# Altium footprint library con-phoenix-350.PCBLIB: 23 footprints (part 2 of 2)
Each footprint in its own frame and in the unit in brackets; x right, y up, seen from the top. Pads: shape width x height; smd on the part's side, far side on the other; paste and mask are expansions set on the pad; w line width, h text height; cw(c..) or ccw(c..) is an arc to the next point about the centre after c.
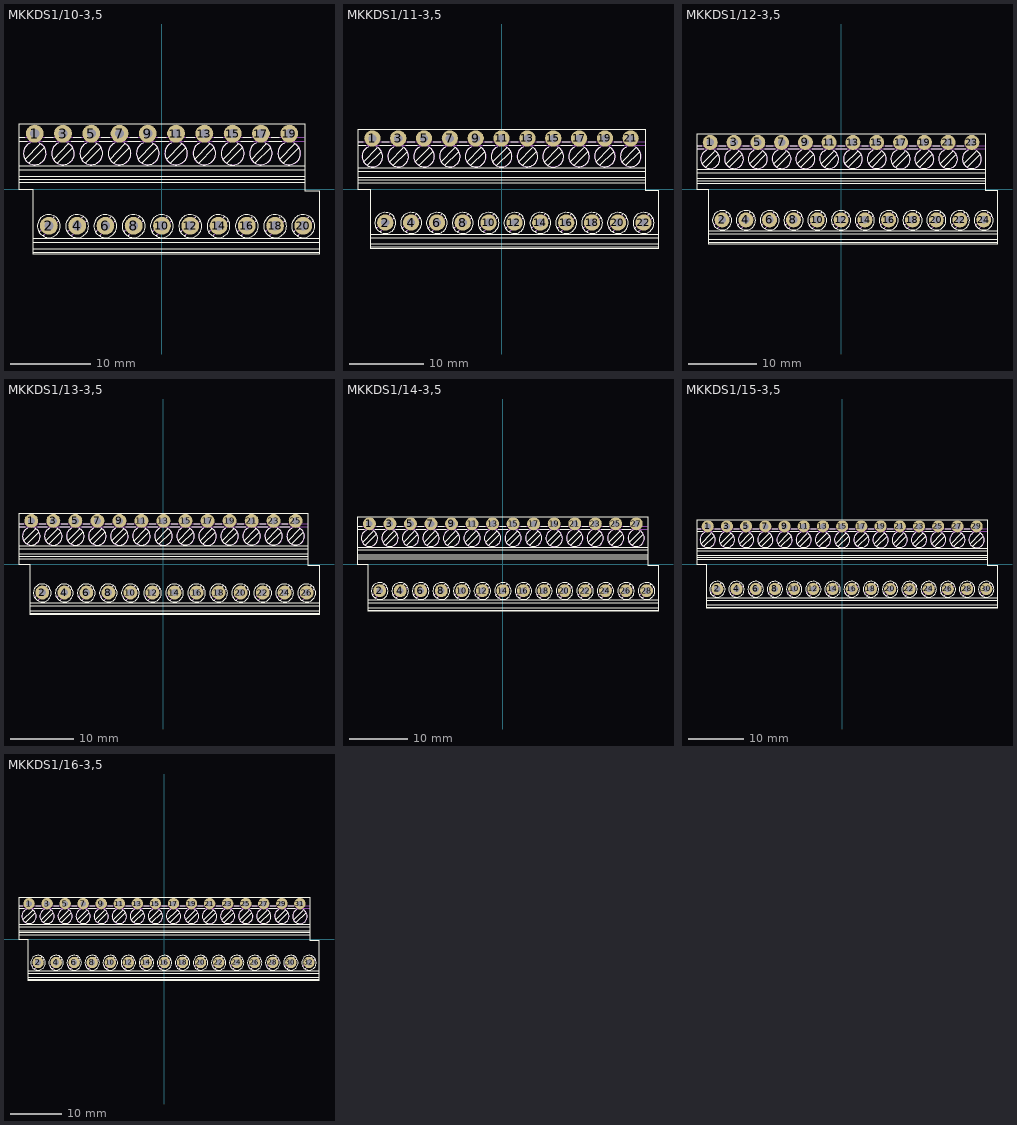
[diagram p1: the footprints below, top view; thin cyan lines are the x and y axes]

## MKKDS1/10-3,5 [mil]
pads (20):
  round 87 hole 44: 1(-620.08,270) 2(-551.18,-179.13) 3(-482.28,270) 4(-413.39,-179.13) 5(-344.49,270) 6(-275.59,-179.13) 7(-206.69,270) 8(-137.8,-179.13) 9(-68.9,270) 10(0,-179.13) 11(69,270) 12(138,-179.13) 13(207,270) 14(276,-179.13) 15(345,270) 16(414,-179.13) 17(483,270) 18(552,-179.13) 19(621,270) 20(689,-179.13)
Top Overlay:
  circle w4: c-551.18,-181.1 r56
  circle w4: c-413.39,-181.1 r56
  circle w4: c-275.59,-181.1 r56
  circle w4: c-137.8,-181.1 r56
  circle w4: c0,-181.1 r56
  circle w4: c138,-181.1 r56
  circle w4: c276,-181.1 r56
  circle w4: c414,-181.1 r56
  circle w4: c552,-181.1 r56
  circle w4: c689,-181.1 r56
  lines w4: -695.87,234 -656.5,234 ; -695.87,252 -668.31,252 ; -694.88,34 696,34 ; -694.88,46 696,46 ; -694.88,63 696,63 ; -694.88,95 696,95 ; -694.88,114 696,114 ; -666.34,146 -593.5,220 ; -646.65,127 -572.83,200 ; -642.72,224 ccw(c-620.15,173.74) -595.47,223 ; -625.98,-309.06 765,-309.06 ; -625.98,-292.32 765,-292.32 ; -625.98,-259.84 765,-259.84 ; -625.98,-241.14 765,-241.14 ; -597.44,-208.66 -593.5,-204.72 ; -580.71,234 -518.7,234 ; -577.76,-227.36 -573.82,-223.43 ; -570.87,252 -530.51,252 ; -528.54,146 -455.71,220 ; -527.56,-137.8 -524.61,-134.84 ; -508.86,127 -435.04,200 ; -506.89,-157.48 -503.94,-154.53 ; -504.92,224 ccw(c-482.35,173.74) -457.68,223 ; -459.65,-208.66 -455.71,-204.72 ; -442.91,234 -380.91,234 ; -439.96,-227.36 -436.02,-223.43 ; -433.07,252 -392.72,252 ; -390.75,146 -317.91,220 ; -389.76,-137.8 -386.81,-134.84 ; -371.06,127 -297.24,200 ; -369.09,-157.48 -366.14,-154.53 ; -367.13,224 ccw(c-344.56,173.74) -319.88,223 ; -321.85,-208.66 -317.91,-204.72 ; -305.12,234 -243.11,234 ; -302.17,-227.36 -298.23,-223.43 ; -295.28,252 -254.92,252 ; -252.95,146 -180.12,220 ; -251.97,-137.8 -249.02,-134.84 ; -233.27,127 -159.45,200 ; -231.3,-157.48 -228.35,-154.53 ; -229.33,224 ccw(c-206.76,173.74) -182.09,223 ; -184.06,-208.66 -180.12,-204.72 ; -167.32,234 -105.31,234 ; -164.37,-227.36 -160.43,-223.43 ; -157.48,252 -117.13,252 ; -115.16,146 -42.32,220 ; -114.17,-137.8 -111.22,-134.84 ; -95.47,127 -21.65,200 ; -93.5,-157.48 -90.55,-154.53 ; -91.54,224 ccw(c-68.97,173.74) -44.29,223 ; -46.26,-208.66 -42.32,-204.72 ; -29.53,234 33,234 ; -26.57,-227.36 -22.64,-223.43 ; -19.68,252 21,252 ; 23,146 96,220 ; 24,-137.8 27,-134.84 ; 43,127 117,200 ; 45,-157.48 48,-154.53 ; 47,224 ccw(c69.45,173.99) 94,223 ; 92,-208.66 96,-204.72 ; 109,234 171,234 ; 112,-227.36 116,-223.43 ; 119,252 159,252 ; 161,146 234,220 ; 162,-137.8 165,-134.84 ; 181,127 254,200 ; 183,-157.48 186,-154.53 ; 185,224 ccw(c207.45,173.99) 232,223 ; 230,-208.66 234,-204.72 ; 247,234 309,234 ; 250,-227.36 253,-223.43 ; 256,252 297,252 ; 299,146 372,220 ; 300,-137.8 303,-134.84 ; 318,127 392,200 ; 320,-157.48 323,-154.53 ; 322,224 ccw(c344.95,172.94) 370,223 ; 368,-208.66 372,-204.72 ; 384,234 446,234 ; 387,-227.36 391,-223.43 ; 394,252 435,252 ; 437,146 509,220 ; 438,-137.8 440,-134.84 ; 456,127 530,200 ; 458,-157.48 461,-154.53 ; 460,224 ccw(c482.45,173.99) 507,223 ; 505,-208.66 509,-204.72 ; 522,234 584,234 ; 525,-227.36 529,-223.43 ; 532,252 572,252 ; 574,146 647,220 ; 575,-137.8 578,-134.84 ; 594,127 668,200 ; 596,-157.48 599,-154.53 ; 598,224 ccw(c620.45,173.99) 645,223 ; 643,-208.66 647,-204.72 ; 663,-227.36 667,-223.43 ; 713,-137.8 716,-134.84 ; 734,-157.48 737,-154.53 ; -696.85,-3.94 -696.85,319 697,319 697,-7.87 766,-7.87 766,-318.9 -627.95,-318.9 -627.95,-3.94 -696.85,-3.94
Mechanical 16:
  circle w4: c-620.08,174 r56
  circle w4: c-482.28,174 r56
  circle w4: c-344.49,174 r56
  circle w4: c-206.69,174 r56
  circle w4: c-68.9,174 r56
  circle w4: c69,174 r56
  circle w4: c207,174 r56
  circle w4: c345,174 r56
  circle w4: c483,174 r56
  circle w4: c621,174 r56
  lines w4: -695.87,234 695,234 ; -695.87,252 695,252 ; -597.44,-208.66 -524.61,-134.84 ; -577.76,-227.36 -503.94,-154.53 ; -459.65,-208.66 -386.81,-134.84 ; -439.96,-227.36 -366.14,-154.53 ; -321.85,-208.66 -249.02,-134.84 ; -302.17,-227.36 -228.35,-154.53 ; -184.06,-208.66 -111.22,-134.84 ; -164.37,-227.36 -90.55,-154.53 ; -46.26,-208.66 27,-134.84 ; -26.57,-227.36 48,-154.53 ; 92,-208.66 165,-134.84 ; 112,-227.36 186,-154.53 ; 230,-208.66 303,-134.84 ; 250,-227.36 323,-154.53 ; 368,-208.66 440,-134.84 ; 387,-227.36 461,-154.53 ; 505,-208.66 578,-134.84 ; 525,-227.36 599,-154.53 ; 643,-208.66 716,-134.84 ; 663,-227.36 737,-154.53

## MKKDS1/11-3,5 [mil]
pads (22):
  round 87 hole 44: 1(-688.98,270) 2(-620.08,-179.13) 3(-551.18,270) 4(-482.28,-179.13) 5(-413.39,270) 6(-344.49,-179.13) 7(-275.59,270) 8(-206.69,-179.13) 9(-137.8,270) 10(-68.9,-179.13) 11(0,270) 12(69,-179.13) 13(138,270) 14(207,-179.13) 15(276,270) 16(345,-179.13) 17(414,270) 18(483,-179.13) 19(552,270) 20(621,-179.13) 21(689,270) 22(758,-179.13)
Top Overlay:
  circle w4: c-620.08,-181.1 r56
  circle w4: c-482.28,-181.1 r56
  circle w4: c-344.49,-181.1 r56
  circle w4: c-206.69,-181.1 r56
  circle w4: c-68.9,-181.1 r56
  circle w4: c69,-181.1 r56
  circle w4: c207,-181.1 r56
  circle w4: c345,-181.1 r56
  circle w4: c483,-181.1 r56
  circle w4: c621,-181.1 r56
  circle w4: c758,-181.1 r56
  lines w4: -764.76,234 -725.39,234 ; -764.76,252 -737.2,252 ; -763.78,34 765,34 ; -763.78,46 765,46 ; -763.78,63 765,63 ; -763.78,95 765,95 ; -763.78,114 765,114 ; -735.24,146 -662.4,220 ; -715.55,127 -641.73,200 ; -711.61,224 ccw(c-689.05,173.74) -664.37,223 ; -694.88,-309.06 834,-309.06 ; -694.88,-292.32 834,-292.32 ; -694.88,-259.84 834,-259.84 ; -694.88,-241.14 834,-241.14 ; -666.34,-208.66 -662.4,-204.72 ; -649.61,234 -587.6,234 ; -646.65,-227.36 -642.72,-223.43 ; -639.76,252 -599.41,252 ; -597.44,146 -524.61,220 ; -596.46,-137.8 -593.5,-134.84 ; -577.76,127 -503.94,200 ; -575.79,-157.48 -572.83,-154.53 ; -573.82,224 ccw(c-551.25,173.74) -526.57,223 ; -528.54,-208.66 -524.61,-204.72 ; -511.81,234 -449.8,234 ; -508.86,-227.36 -504.92,-223.43 ; -501.97,252 -461.61,252 ; -459.65,146 -386.81,220 ; -458.66,-137.8 -455.71,-134.84 ; -439.96,127 -366.14,200 ; -437.99,-157.48 -435.04,-154.53 ; -436.02,224 ccw(c-413.45,173.74) -388.78,223 ; -390.75,-208.66 -386.81,-204.72 ; -374.02,234 -312.01,234 ; -371.06,-227.36 -367.13,-223.43 ; -364.17,252 -323.82,252 ; -321.85,146 -249.02,220 ; -320.87,-137.8 -317.91,-134.84 ; -302.17,127 -228.35,200 ; -300.2,-157.48 -297.24,-154.53 ; -298.23,224 ccw(c-275.66,173.74) -250.98,223 ; -252.95,-208.66 -249.02,-204.72 ; -236.22,234 -174.21,234 ; -233.27,-227.36 -229.33,-223.43 ; -226.38,252 -186.02,252 ; -184.06,146 -111.22,220 ; -183.07,-137.8 -180.12,-134.84 ; -164.37,127 -90.55,200 ; -162.4,-157.48 -159.45,-154.53 ; -160.43,224 ccw(c-137.86,173.74) -113.19,223 ; -115.16,-208.66 -111.22,-204.72 ; -98.43,234 -36.42,234 ; -95.47,-227.36 -91.54,-223.43 ; -88.58,252 -48.23,252 ; -46.26,146 27,220 ; -45.28,-137.8 -42.32,-134.84 ; -26.57,127 48,200 ; -24.61,-157.48 -21.65,-154.53 ; -22.64,224 ccw(c0.13,173.32) 25,223 ; 23,-208.66 27,-204.72 ; 40,234 102,234 ; 43,-227.36 47,-223.43 ; 50,252 90,252 ; 92,146 165,220 ; 93,-137.8 96,-134.84 ; 112,127 186,200 ; 114,-157.48 117,-154.53 ; 116,224 ccw(c138.45,173.99) 163,223 ; 161,-208.66 165,-204.72 ; 178,234 240,234 ; 181,-227.36 185,-223.43 ; 188,252 228,252 ; 230,146 303,220 ; 231,-137.8 234,-134.84 ; 250,127 323,200 ; 251,-157.48 254,-154.53 ; 253,224 ccw(c275.95,172.94) 301,223 ; 299,-208.66 303,-204.72 ; 315,234 377,234 ; 318,-227.36 322,-223.43 ; 325,252 366,252 ; 368,146 440,220 ; 369,-137.8 372,-134.84 ; 387,127 461,200 ; 389,-157.48 392,-154.53 ; 391,224 ccw(c413.45,173.99) 438,223 ; 437,-208.66 440,-204.72 ; 453,234 515,234 ; 456,-227.36 460,-223.43 ; 463,252 503,252 ; 505,146 578,220 ; 506,-137.8 509,-134.84 ; 525,127 599,200 ; 527,-157.48 530,-154.53 ; 529,224 ccw(c551.45,173.99) 576,223 ; 574,-208.66 578,-204.72 ; 591,234 653,234 ; 594,-227.36 598,-223.43 ; 601,252 641,252 ; 643,146 716,220 ; 644,-137.8 647,-134.84 ; 663,127 737,200 ; 665,-157.48 668,-154.53 ; 667,224 ccw(c689.45,173.99) 714,223 ; 712,-208.66 716,-204.72 ; 732,-227.36 736,-223.43 ; 782,-137.8 785,-134.84 ; 803,-157.48 806,-154.53 ; -765.75,-3.94 -765.75,319 766,319 766,-7.87 835,-7.87 835,-318.9 -696.85,-318.9 -696.85,-3.94 -765.75,-3.94
Mechanical 16:
  circle w4: c-688.98,174 r56
  circle w4: c-551.18,174 r56
  circle w4: c-413.39,174 r56
  circle w4: c-275.59,174 r56
  circle w4: c-137.8,174 r56
  circle w4: c0,174 r56
  circle w4: c138,174 r56
  circle w4: c276,174 r56
  circle w4: c414,174 r56
  circle w4: c552,174 r56
  circle w4: c689,174 r56
  lines w4: -764.76,234 764,234 ; -764.76,252 764,252 ; -666.34,-208.66 -593.5,-134.84 ; -646.65,-227.36 -572.83,-154.53 ; -528.54,-208.66 -455.71,-134.84 ; -508.86,-227.36 -435.04,-154.53 ; -390.75,-208.66 -317.91,-134.84 ; -371.06,-227.36 -297.24,-154.53 ; -252.95,-208.66 -180.12,-134.84 ; -233.27,-227.36 -159.45,-154.53 ; -115.16,-208.66 -42.32,-134.84 ; -95.47,-227.36 -21.65,-154.53 ; 23,-208.66 96,-134.84 ; 43,-227.36 117,-154.53 ; 161,-208.66 234,-134.84 ; 181,-227.36 254,-154.53 ; 299,-208.66 372,-134.84 ; 318,-227.36 392,-154.53 ; 437,-208.66 509,-134.84 ; 456,-227.36 530,-154.53 ; 574,-208.66 647,-134.84 ; 594,-227.36 668,-154.53 ; 712,-208.66 785,-134.84 ; 732,-227.36 806,-154.53

## MKKDS1/12-3,5 [mil]
pads (24):
  round 87 hole 44: 1(-757.87,270) 2(-688.98,-179.13) 3(-620.08,270) 4(-551.18,-179.13) 5(-482.28,270) 6(-413.39,-179.13) 7(-344.49,270) 8(-275.59,-179.13) 9(-206.69,270) 10(-137.8,-179.13) 11(-68.9,270) 12(0,-179.13) 13(69,270) 14(138,-179.13) 15(207,270) 16(276,-179.13) 17(345,270) 18(414,-179.13) 19(483,270) 20(552,-179.13) 21(621,270) 22(689,-179.13) 23(758,270) 24(827,-179.13)
Top Overlay:
  circle w4: c-688.98,-181.1 r56
  circle w4: c-551.18,-181.1 r56
  circle w4: c-413.39,-181.1 r56
  circle w4: c-275.59,-181.1 r56
  circle w4: c-137.8,-181.1 r56
  circle w4: c0,-181.1 r56
  circle w4: c138,-181.1 r56
  circle w4: c276,-181.1 r56
  circle w4: c414,-181.1 r56
  circle w4: c552,-181.1 r56
  circle w4: c689,-181.1 r56
  circle w4: c827,-181.1 r56
  lines w4: -833.66,234 -794.29,234 ; -833.66,252 -806.1,252 ; -832.68,34 834,34 ; -832.68,46 834,46 ; -832.68,63 834,63 ; -832.68,95 834,95 ; -832.68,114 834,114 ; -804.13,146 -731.3,220 ; -784.45,127 -710.63,200 ; -780.51,224 ccw(c-757.94,173.74) -733.27,223 ; -763.78,-309.06 903,-309.06 ; -763.78,-292.32 903,-292.32 ; -763.78,-259.84 903,-259.84 ; -763.78,-241.14 903,-241.14 ; -735.24,-208.66 -731.3,-204.72 ; -718.5,234 -656.5,234 ; -715.55,-227.36 -711.61,-223.43 ; -708.66,252 -668.31,252 ; -666.34,146 -593.5,220 ; -665.35,-137.8 -662.4,-134.84 ; -646.65,127 -572.83,200 ; -644.68,-157.48 -641.73,-154.53 ; -642.72,224 ccw(c-620.15,173.74) -595.47,223 ; -597.44,-208.66 -593.5,-204.72 ; -580.71,234 -518.7,234 ; -577.76,-227.36 -573.82,-223.43 ; -570.87,252 -530.51,252 ; -528.54,146 -455.71,220 ; -527.56,-137.8 -524.61,-134.84 ; -508.86,127 -435.04,200 ; -506.89,-157.48 -503.94,-154.53 ; -504.92,224 ccw(c-482.35,173.74) -457.68,223 ; -459.65,-208.66 -455.71,-204.72 ; -442.91,234 -380.91,234 ; -439.96,-227.36 -436.02,-223.43 ; -433.07,252 -392.72,252 ; -390.75,146 -317.91,220 ; -389.76,-137.8 -386.81,-134.84 ; -371.06,127 -297.24,200 ; -369.09,-157.48 -366.14,-154.53 ; -367.13,224 ccw(c-344.56,173.74) -319.88,223 ; -321.85,-208.66 -317.91,-204.72 ; -305.12,234 -243.11,234 ; -302.17,-227.36 -298.23,-223.43 ; -295.28,252 -254.92,252 ; -252.95,146 -180.12,220 ; -251.97,-137.8 -249.02,-134.84 ; -233.27,127 -159.45,200 ; -231.3,-157.48 -228.35,-154.53 ; -229.33,224 ccw(c-206.76,173.74) -182.09,223 ; -184.06,-208.66 -180.12,-204.72 ; -167.32,234 -105.31,234 ; -164.37,-227.36 -160.43,-223.43 ; -157.48,252 -117.13,252 ; -115.16,146 -42.32,220 ; -114.17,-137.8 -111.22,-134.84 ; -95.47,127 -21.65,200 ; -93.5,-157.48 -90.55,-154.53 ; -91.54,224 ccw(c-68.97,173.74) -44.29,223 ; -46.26,-208.66 -42.32,-204.72 ; -29.53,234 33,234 ; -26.57,-227.36 -22.64,-223.43 ; -19.68,252 21,252 ; 23,146 96,220 ; 24,-137.8 27,-134.84 ; 43,127 117,200 ; 45,-157.48 48,-154.53 ; 47,224 ccw(c69.45,173.99) 94,223 ; 92,-208.66 96,-204.72 ; 109,234 171,234 ; 112,-227.36 116,-223.43 ; 119,252 159,252 ; 161,146 234,220 ; 162,-137.8 165,-134.84 ; 181,127 254,200 ; 183,-157.48 186,-154.53 ; 185,224 ccw(c207.45,173.99) 232,223 ; 230,-208.66 234,-204.72 ; 247,234 309,234 ; 250,-227.36 253,-223.43 ; 256,252 297,252 ; 299,146 372,220 ; 300,-137.8 303,-134.84 ; 318,127 392,200 ; 320,-157.48 323,-154.53 ; 322,224 ccw(c344.95,172.94) 370,223 ; 368,-208.66 372,-204.72 ; 384,234 446,234 ; 387,-227.36 391,-223.43 ; 394,252 435,252 ; 437,146 509,220 ; 438,-137.8 440,-134.84 ; 456,127 530,200 ; 458,-157.48 461,-154.53 ; 460,224 ccw(c482.45,173.99) 507,223 ; 505,-208.66 509,-204.72 ; 522,234 584,234 ; 525,-227.36 529,-223.43 ; 532,252 572,252 ; 574,146 647,220 ; 575,-137.8 578,-134.84 ; 594,127 668,200 ; 596,-157.48 599,-154.53 ; 598,224 ccw(c620.45,173.99) 645,223 ; 643,-208.66 647,-204.72 ; 660,234 722,234 ; 663,-227.36 667,-223.43 ; 670,252 710,252 ; 712,146 785,220 ; 713,-137.8 716,-134.84 ; 732,127 806,200 ; 734,-157.48 737,-154.53 ; 736,224 ccw(c758.45,173.99) 783,223 ; 781,-208.66 785,-204.72 ; 801,-227.36 805,-223.43 ; 851,-137.8 854,-134.84 ; 872,-157.48 875,-154.53 ; -834.65,-3.94 -834.65,319 835,319 835,-7.87 904,-7.87 904,-318.9 -765.75,-318.9 -765.75,-3.94 -834.65,-3.94
Mechanical 16:
  circle w4: c-757.87,174 r56
  circle w4: c-620.08,174 r56
  circle w4: c-482.28,174 r56
  circle w4: c-344.49,174 r56
  circle w4: c-206.69,174 r56
  circle w4: c-68.9,174 r56
  circle w4: c69,174 r56
  circle w4: c207,174 r56
  circle w4: c345,174 r56
  circle w4: c483,174 r56
  circle w4: c621,174 r56
  circle w4: c758,174 r56
  lines w4: -833.66,234 833,234 ; -833.66,252 833,252 ; -735.24,-208.66 -662.4,-134.84 ; -715.55,-227.36 -641.73,-154.53 ; -597.44,-208.66 -524.61,-134.84 ; -577.76,-227.36 -503.94,-154.53 ; -459.65,-208.66 -386.81,-134.84 ; -439.96,-227.36 -366.14,-154.53 ; -321.85,-208.66 -249.02,-134.84 ; -302.17,-227.36 -228.35,-154.53 ; -184.06,-208.66 -111.22,-134.84 ; -164.37,-227.36 -90.55,-154.53 ; -46.26,-208.66 27,-134.84 ; -26.57,-227.36 48,-154.53 ; 92,-208.66 165,-134.84 ; 112,-227.36 186,-154.53 ; 230,-208.66 303,-134.84 ; 250,-227.36 323,-154.53 ; 368,-208.66 440,-134.84 ; 387,-227.36 461,-154.53 ; 505,-208.66 578,-134.84 ; 525,-227.36 599,-154.53 ; 643,-208.66 716,-134.84 ; 663,-227.36 737,-154.53 ; 781,-208.66 854,-134.84 ; 801,-227.36 875,-154.53

## MKKDS1/13-3,5 [mil]
pads (26):
  round 87 hole 44: 1(-826.77,270) 2(-757.87,-179.13) 3(-688.98,270) 4(-620.08,-179.13) 5(-551.18,270) 6(-482.28,-179.13) 7(-413.39,270) 8(-344.49,-179.13) 9(-275.59,270) 10(-206.69,-179.13) 11(-137.8,270) 12(-68.9,-179.13) 13(0,270) 14(69,-179.13) 15(138,270) 16(207,-179.13) 17(276,270) 18(345,-179.13) 19(414,270) 20(483,-179.13) 21(552,270) 22(621,-179.13) 23(689,270) 24(758,-179.13) 25(827,270) 26(896,-179.13)
Top Overlay:
  circle w4: c-757.87,-181.1 r56
  circle w4: c-620.08,-181.1 r56
  circle w4: c-482.28,-181.1 r56
  circle w4: c-344.49,-181.1 r56
  circle w4: c-206.69,-181.1 r56
  circle w4: c-68.9,-181.1 r56
  circle w4: c69,-181.1 r56
  circle w4: c207,-181.1 r56
  circle w4: c345,-181.1 r56
  circle w4: c483,-181.1 r56
  circle w4: c621,-181.1 r56
  circle w4: c758,-181.1 r56
  circle w4: c896,-181.1 r56
  lines w4: -902.56,234 -863.19,234 ; -902.56,252 -875,252 ; -901.57,34 903,34 ; -901.57,46 903,46 ; -901.57,63 903,63 ; -901.57,95 903,95 ; -901.57,114 903,114 ; -873.03,146 -800.2,220 ; -853.35,127 -779.53,200 ; -849.41,224 ccw(c-826.84,173.74) -802.17,223 ; -832.68,-309.06 972,-309.06 ; -832.68,-292.32 972,-292.32 ; -832.68,-259.84 972,-259.84 ; -832.68,-241.14 972,-241.14 ; -804.13,-208.66 -800.2,-204.72 ; -787.4,234 -725.39,234 ; -784.45,-227.36 -780.51,-223.43 ; -777.56,252 -737.2,252 ; -735.24,146 -662.4,220 ; -734.25,-137.8 -731.3,-134.84 ; -715.55,127 -641.73,200 ; -713.58,-157.48 -710.63,-154.53 ; -711.61,224 ccw(c-689.05,173.74) -664.37,223 ; -666.34,-208.66 -662.4,-204.72 ; -649.61,234 -587.6,234 ; -646.65,-227.36 -642.72,-223.43 ; -639.76,252 -599.41,252 ; -597.44,146 -524.61,220 ; -596.46,-137.8 -593.5,-134.84 ; -577.76,127 -503.94,200 ; -575.79,-157.48 -572.83,-154.53 ; -573.82,224 ccw(c-551.25,173.74) -526.57,223 ; -528.54,-208.66 -524.61,-204.72 ; -511.81,234 -449.8,234 ; -508.86,-227.36 -504.92,-223.43 ; -501.97,252 -461.61,252 ; -459.65,146 -386.81,220 ; -458.66,-137.8 -455.71,-134.84 ; -439.96,127 -366.14,200 ; -437.99,-157.48 -435.04,-154.53 ; -436.02,224 ccw(c-413.45,173.74) -388.78,223 ; -390.75,-208.66 -386.81,-204.72 ; -374.02,234 -312.01,234 ; -371.06,-227.36 -367.13,-223.43 ; -364.17,252 -323.82,252 ; -321.85,146 -249.02,220 ; -320.87,-137.8 -317.91,-134.84 ; -302.17,127 -228.35,200 ; -300.2,-157.48 -297.24,-154.53 ; -298.23,224 ccw(c-275.66,173.74) -250.98,223 ; -252.95,-208.66 -249.02,-204.72 ; -236.22,234 -174.21,234 ; -233.27,-227.36 -229.33,-223.43 ; -226.38,252 -186.02,252 ; -184.06,146 -111.22,220 ; -183.07,-137.8 -180.12,-134.84 ; -164.37,127 -90.55,200 ; -162.4,-157.48 -159.45,-154.53 ; -160.43,224 ccw(c-137.86,173.74) -113.19,223 ; -115.16,-208.66 -111.22,-204.72 ; -98.43,234 -36.42,234 ; -95.47,-227.36 -91.54,-223.43 ; -88.58,252 -48.23,252 ; -46.26,146 27,220 ; -45.28,-137.8 -42.32,-134.84 ; -26.57,127 48,200 ; -24.61,-157.48 -21.65,-154.53 ; -22.64,224 ccw(c0.13,173.32) 25,223 ; 23,-208.66 27,-204.72 ; 40,234 102,234 ; 43,-227.36 47,-223.43 ; 50,252 90,252 ; 92,146 165,220 ; 93,-137.8 96,-134.84 ; 112,127 186,200 ; 114,-157.48 117,-154.53 ; 116,224 ccw(c138.45,173.99) 163,223 ; 161,-208.66 165,-204.72 ; 178,234 240,234 ; 181,-227.36 185,-223.43 ; 188,252 228,252 ; 230,146 303,220 ; 231,-137.8 234,-134.84 ; 250,127 323,200 ; 251,-157.48 254,-154.53 ; 253,224 ccw(c275.95,172.94) 301,223 ; 299,-208.66 303,-204.72 ; 315,234 377,234 ; 318,-227.36 322,-223.43 ; 325,252 366,252 ; 368,146 440,220 ; 369,-137.8 372,-134.84 ; 387,127 461,200 ; 389,-157.48 392,-154.53 ; 391,224 ccw(c413.45,173.99) 438,223 ; 437,-208.66 440,-204.72 ; 453,234 515,234 ; 456,-227.36 460,-223.43 ; 463,252 503,252 ; 505,146 578,220 ; 506,-137.8 509,-134.84 ; 525,127 599,200 ; 527,-157.48 530,-154.53 ; 529,224 ccw(c551.45,173.99) 576,223 ; 574,-208.66 578,-204.72 ; 591,234 653,234 ; 594,-227.36 598,-223.43 ; 601,252 641,252 ; 643,146 716,220 ; 644,-137.8 647,-134.84 ; 663,127 737,200 ; 665,-157.48 668,-154.53 ; 667,224 ccw(c689.45,173.99) 714,223 ; 712,-208.66 716,-204.72 ; 729,234 791,234 ; 732,-227.36 736,-223.43 ; 739,252 779,252 ; 781,146 854,220 ; 782,-137.8 785,-134.84 ; 801,127 875,200 ; 803,-157.48 806,-154.53 ; 805,224 ccw(c827.45,173.99) 852,223 ; 850,-208.66 854,-204.72 ; 870,-227.36 874,-223.43 ; 920,-137.8 923,-134.84 ; 940,-157.48 943,-154.53 ; -903.54,-3.94 -903.54,319 904,319 904,-7.87 973,-7.87 973,-318.9 -834.65,-318.9 -834.65,-3.94 -903.54,-3.94
Mechanical 16:
  circle w4: c-826.77,174 r56
  circle w4: c-688.98,174 r56
  circle w4: c-551.18,174 r56
  circle w4: c-413.39,174 r56
  circle w4: c-275.59,174 r56
  circle w4: c-137.8,174 r56
  circle w4: c0,174 r56
  circle w4: c138,174 r56
  circle w4: c276,174 r56
  circle w4: c414,174 r56
  circle w4: c552,174 r56
  circle w4: c689,174 r56
  circle w4: c827,174 r56
  lines w4: -902.56,234 902,234 ; -902.56,252 902,252 ; -804.13,-208.66 -731.3,-134.84 ; -784.45,-227.36 -710.63,-154.53 ; -666.34,-208.66 -593.5,-134.84 ; -646.65,-227.36 -572.83,-154.53 ; -528.54,-208.66 -455.71,-134.84 ; -508.86,-227.36 -435.04,-154.53 ; -390.75,-208.66 -317.91,-134.84 ; -371.06,-227.36 -297.24,-154.53 ; -252.95,-208.66 -180.12,-134.84 ; -233.27,-227.36 -159.45,-154.53 ; -115.16,-208.66 -42.32,-134.84 ; -95.47,-227.36 -21.65,-154.53 ; 23,-208.66 96,-134.84 ; 43,-227.36 117,-154.53 ; 161,-208.66 234,-134.84 ; 181,-227.36 254,-154.53 ; 299,-208.66 372,-134.84 ; 318,-227.36 392,-154.53 ; 437,-208.66 509,-134.84 ; 456,-227.36 530,-154.53 ; 574,-208.66 647,-134.84 ; 594,-227.36 668,-154.53 ; 712,-208.66 785,-134.84 ; 732,-227.36 806,-154.53 ; 850,-208.66 923,-134.84 ; 870,-227.36 943,-154.53

## MKKDS1/14-3,5 [mil]
pads (28):
  round 87 hole 44: 1(-895.67,270) 2(-826.77,-179.13) 3(-757.87,270) 4(-688.98,-179.13) 5(-620.08,270) 6(-551.18,-179.13) 7(-482.28,270) 8(-413.39,-179.13) 9(-344.49,270) 10(-275.59,-179.13) 11(-206.69,270) 12(-137.8,-179.13) 13(-68.9,270) 14(0,-179.13) 15(69,270) 16(138,-179.13) 17(207,270) 18(276,-179.13) 19(345,270) 20(414,-179.13) 21(483,270) 22(552,-179.13) 23(621,270) 24(689,-179.13) 25(758,270) 26(827,-179.13) 27(896,270) 28(965,-179.13)
Top Overlay:
  drawing of 157 lines, arcs and shapes, not listed
Mechanical 16:
  circle w4: c-895.67,174 r56
  circle w4: c-757.87,174 r56
  circle w4: c-620.08,174 r56
  circle w4: c-482.28,174 r56
  circle w4: c-344.49,174 r56
  circle w4: c-206.69,174 r56
  circle w4: c-68.9,174 r56
  circle w4: c69,174 r56
  circle w4: c207,174 r56
  circle w4: c345,174 r56
  circle w4: c483,174 r56
  circle w4: c621,174 r56
  circle w4: c758,174 r56
  circle w4: c896,174 r56
  lines w4: -971.46,234 971,234 ; -971.46,252 971,252 ; -873.03,-208.66 -800.2,-134.84 ; -853.35,-227.36 -779.53,-154.53 ; -735.24,-208.66 -662.4,-134.84 ; -715.55,-227.36 -641.73,-154.53 ; -597.44,-208.66 -524.61,-134.84 ; -577.76,-227.36 -503.94,-154.53 ; -459.65,-208.66 -386.81,-134.84 ; -439.96,-227.36 -366.14,-154.53 ; -321.85,-208.66 -249.02,-134.84 ; -302.17,-227.36 -228.35,-154.53 ; -184.06,-208.66 -111.22,-134.84 ; -164.37,-227.36 -90.55,-154.53 ; -46.26,-208.66 27,-134.84 ; -26.57,-227.36 48,-154.53 ; 92,-208.66 165,-134.84 ; 112,-227.36 186,-154.53 ; 230,-208.66 303,-134.84 ; 250,-227.36 323,-154.53 ; 368,-208.66 440,-134.84 ; 387,-227.36 461,-154.53 ; 505,-208.66 578,-134.84 ; 525,-227.36 599,-154.53 ; 643,-208.66 716,-134.84 ; 663,-227.36 737,-154.53 ; 781,-208.66 854,-134.84 ; 801,-227.36 875,-154.53 ; 919,-208.66 992,-134.84 ; 938,-227.36 1012,-154.53

## MKKDS1/15-3,5 [mil]
pads (30):
  round 87 hole 44: 1(-964.57,270) 2(-895.67,-179.13) 3(-826.77,270) 4(-757.87,-179.13) 5(-688.98,270) 6(-620.08,-179.13) 7(-551.18,270) 8(-482.28,-179.13) 9(-413.39,270) 10(-344.49,-179.13) 11(-275.59,270) 12(-206.69,-179.13) 13(-137.8,270) 14(-68.9,-179.13) 15(0,270) 16(69,-179.13) 17(138,270) 18(207,-179.13) 19(276,270) 20(345,-179.13) 21(414,270) 22(483,-179.13) 23(552,270) 24(621,-179.13) 25(689,270) 26(758,-179.13) 27(827,270) 28(896,-179.13) 29(965,270) 30(1034,-179.13)
Top Overlay:
  drawing of 167 lines, arcs and shapes, not listed
Mechanical 16:
  circle w4: c-964.57,174 r56
  circle w4: c-826.77,174 r56
  circle w4: c-688.98,174 r56
  circle w4: c-551.18,174 r56
  circle w4: c-413.39,174 r56
  circle w4: c-275.59,174 r56
  circle w4: c-137.8,174 r56
  circle w4: c0,174 r56
  circle w4: c138,174 r56
  circle w4: c276,174 r56
  circle w4: c414,174 r56
  circle w4: c552,174 r56
  circle w4: c689,174 r56
  circle w4: c827,174 r56
  circle w4: c965,174 r56
  lines w4: -1040.35,234 1040,234 ; -1040.35,252 1040,252 ; -941.93,-208.66 -869.09,-134.84 ; -922.24,-227.36 -848.43,-154.53 ; -804.13,-208.66 -731.3,-134.84 ; -784.45,-227.36 -710.63,-154.53 ; -666.34,-208.66 -593.5,-134.84 ; -646.65,-227.36 -572.83,-154.53 ; -528.54,-208.66 -455.71,-134.84 ; -508.86,-227.36 -435.04,-154.53 ; -390.75,-208.66 -317.91,-134.84 ; -371.06,-227.36 -297.24,-154.53 ; -252.95,-208.66 -180.12,-134.84 ; -233.27,-227.36 -159.45,-154.53 ; -115.16,-208.66 -42.32,-134.84 ; -95.47,-227.36 -21.65,-154.53 ; 23,-208.66 96,-134.84 ; 43,-227.36 117,-154.53 ; 161,-208.66 234,-134.84 ; 181,-227.36 254,-154.53 ; 299,-208.66 372,-134.84 ; 318,-227.36 392,-154.53 ; 437,-208.66 509,-134.84 ; 456,-227.36 530,-154.53 ; 574,-208.66 647,-134.84 ; 594,-227.36 668,-154.53 ; 712,-208.66 785,-134.84 ; 732,-227.36 806,-154.53 ; 850,-208.66 923,-134.84 ; 870,-227.36 943,-154.53 ; 988,-208.66 1061,-134.84 ; 1007,-227.36 1081,-154.53

## MKKDS1/16-3,5 [mil]
pads (32):
  round 87 hole 44: 1(-1033.46,270) 2(-964.57,-179.13) 3(-895.67,270) 4(-826.77,-179.13) 5(-757.87,270) 6(-688.98,-179.13) 7(-620.08,270) 8(-551.18,-179.13) 9(-482.28,270) 10(-413.39,-179.13) 11(-344.49,270) 12(-275.59,-179.13) 13(-206.69,270) 14(-137.8,-179.13) 15(-68.9,270) 16(0,-179.13) 17(69,270) 18(138,-179.13) 19(207,270) 20(276,-179.13) 21(345,270) 22(414,-179.13) 23(483,270) 24(552,-179.13) 25(621,270) 26(689,-179.13) 27(758,270) 28(827,-179.13) 29(896,270) 30(965,-179.13) 31(1034,270) 32(1103,-179.13)
Top Overlay:
  drawing of 177 lines, arcs and shapes, not listed
Mechanical 16:
  circle w4: c-1033.46,174 r56
  circle w4: c-895.67,174 r56
  circle w4: c-757.87,174 r56
  circle w4: c-620.08,174 r56
  circle w4: c-482.28,174 r56
  circle w4: c-344.49,174 r56
  circle w4: c-206.69,174 r56
  circle w4: c-68.9,174 r56
  circle w4: c69,174 r56
  circle w4: c207,174 r56
  circle w4: c345,174 r56
  circle w4: c483,174 r56
  circle w4: c621,174 r56
  circle w4: c758,174 r56
  circle w4: c896,174 r56
  circle w4: c1034,174 r56
  lines w4: -1109.25,234 1109,234 ; -1109.25,252 1109,252 ; -1010.83,-208.66 -937.99,-134.84 ; -991.14,-227.36 -917.32,-154.53 ; -873.03,-208.66 -800.2,-134.84 ; -853.35,-227.36 -779.53,-154.53 ; -735.24,-208.66 -662.4,-134.84 ; -715.55,-227.36 -641.73,-154.53 ; -597.44,-208.66 -524.61,-134.84 ; -577.76,-227.36 -503.94,-154.53 ; -459.65,-208.66 -386.81,-134.84 ; -439.96,-227.36 -366.14,-154.53 ; -321.85,-208.66 -249.02,-134.84 ; -302.17,-227.36 -228.35,-154.53 ; -184.06,-208.66 -111.22,-134.84 ; -164.37,-227.36 -90.55,-154.53 ; -46.26,-208.66 27,-134.84 ; -26.57,-227.36 48,-154.53 ; 92,-208.66 165,-134.84 ; 112,-227.36 186,-154.53 ; 230,-208.66 303,-134.84 ; 250,-227.36 323,-154.53 ; 368,-208.66 440,-134.84 ; 387,-227.36 461,-154.53 ; 505,-208.66 578,-134.84 ; 525,-227.36 599,-154.53 ; 643,-208.66 716,-134.84 ; 663,-227.36 737,-154.53 ; 781,-208.66 854,-134.84 ; 801,-227.36 875,-154.53 ; 919,-208.66 992,-134.84 ; 938,-227.36 1012,-154.53 ; 1057,-208.66 1129,-134.84 ; 1076,-227.36 1150,-154.53